# Altium integrated library BCS-103-L-D-TE.IntLib: 1 symbol
Pins are listed as number, name and electrical type; pins without a type are passive.

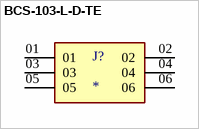
[diagram p0: symbol BCS-103-L-D-TE]

## BCS-103-L-D-TE
designator J?
MF: Samtec Inc.; MP: BCS-103-L-D-TE; Price: None; Package: None; Value: *; Availability: Unavailable
footprint SAMTEC_BCS-103-L-D-TE
pins: 01, 02, 03, 04, 05, 06